# Altium schematic symbol library Netra_OBC_aux_power_board.SchLib: 5 symbols
Pins are listed as number, name and electrical type; pins without a type are passive.

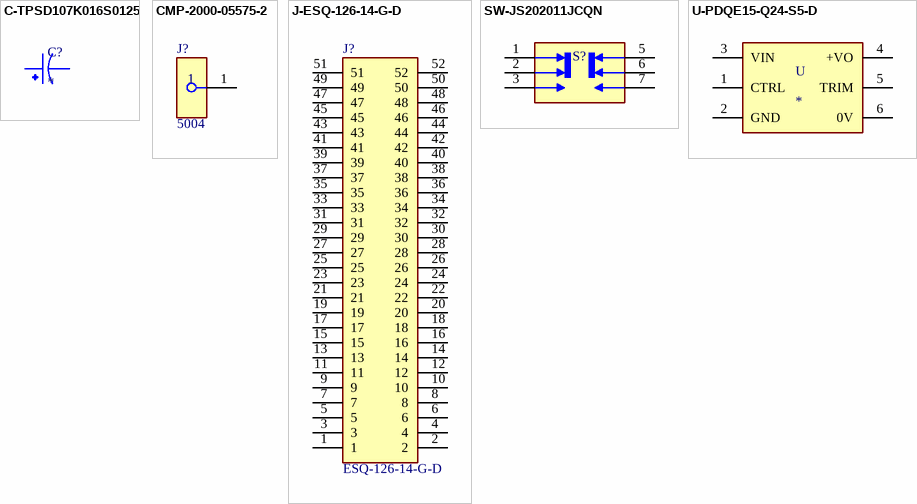
[diagram p0: symbols C-TPSD107K016S0125 to U-PDQE15-Q24-S5-D]

## C-TPSD107K016S0125
designator C?
CAP TANT 100UF 10% 16V 2917; Manufacturer: KYOCERA AVX; Manufacturer Part #: TPSD107K016S0125; Distributor: Digikey; Digi-Key Part #: 478-9141-1-ND
footprint C-TPSD107K016S0125
pins: 1, 2

## CMP-2000-05575-2
designator J?, comment 5004
PC TEST POINT MINIATURE YELLOW; Manufacturer: Keystone; Manufacturer: Keystone Electronics; Number Of Contacts: 1; Is Female: yes; Device Class L1: Connectors; Manufacturer Part Number: 5004; Digikey Description: PC TEST POINT MINIATURE YELLOW; ComponentLink2URL: https://www.keyelco.com/product-pdf.cfm?p=1313; Lead Free: Yes; ComponentLink2Description: Datasheet; Category: Conn; Height: 4.72mm; Octopart: https://octopart.com/5004-keystone-28591; Mouser Description: TEST POINT PC MINI .040"D YELLOW; Device Class L3: unset; Contact Material: Silver; Package: 5004; Automotive: No; Device Class L2: unset; RoHS: TRUE
footprint FP-5004-MFG
pins: 1

## J-ESQ-126-14-G-D
designator J?, comment ESQ-126-14-G-D
CONN SOCKET 52POS 0.1 GOLD PCB; Manufacturer: Samtec Inc.; Manufacturer Part #: ESQ-126-14-G-D; Distributor: Digikey; Distributor Part #: SAM11114-ND
footprint SAMTEC_ESQ-126-14-G-D
pins: 1, 2, 3, 4, 5, 6, 7, 8, 9, 10, 11, 12, 13, 14, 15, 16, 17, 18, 19, 20, 21, 22, 23, 24, 25, 26, 27, 28, 29, 30, 31, 32, 33, 34, 35, 36, 37, 38, 39, 40, 41, 42, 43, 44, 45, 46, 47, 48, 49, 50, 51, 52

## SW-JS202011JCQN
designator S?
SWITCH SLIDE DPDT 300MA 6V; Manufacturer Part #: JS202011JCQN; Manufacturer: C&K; Distributor: Digi-key; Distributor Part #: CKN10723CT-ND
footprint SW-JS202011JCQN
pins: 1, 2, 3, 5, 6, 7

## U-PDQE15-Q24-S5-D
designator U
15 W, 4:1 Input Range, Single/Dual Regulated Output, DIP, 1500 Vdc Isolation, Dc-Dc Converter; Manufactuer: CUI Inc.; Manufactuer Part #: PDQE15-Q24-S5-D; Distributor: Digikey; Distributor Part #: 102-6253-ND
footprint U-PDQE15-Q48-D5-D
pins: 1 CTRL, 2 GND, 3 VIN, 4 +VO, 5 TRIM, 6 0V